# Altium footprint library MBRD10200CT-13.PcbLib: 3 footprints
Each footprint in its own frame and in the unit in brackets; x right, y up, seen from the top. Pads: shape width x height; smd on the part's side, far side on the other; paste and mask are expansions set on the pad; w line width, h text height; cw(c..) or ccw(c..) is an arc to the next point about the centre after c.
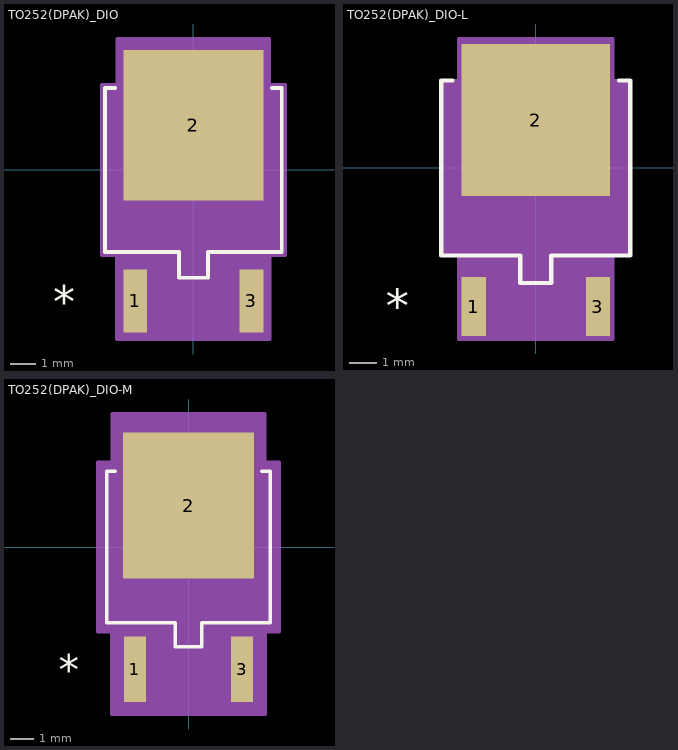
[diagram p0: the footprints below, top view; thin cyan lines are the x and y axes]

## TO252(DPAK)_DIO [mil]
pads (3):
  rect 37x98 smd paste+0 mask+0: 1(-90,-203) 3(90,-203)
  rect 217x233 smd paste+0 mask+0: 2(0,69.5)
Top Overlay:
  lines w6: -121.6,127 -137,127 -137,-127 -22.5,-127 -22.5,-167 22.5,-167 22.5,-127 137,-127 137,127 121.6,127
  text "*" at -217.5,-228 h50
Mechanical 13:
  lines w1: -132,-122 132,-122 132,122 -132,122 -132,-122 ; -107.5,-238 -107.5,-122 -72.5,-122 -72.5,-238 -107.5,-238 ; -17.5,-162 -17.5,-122 17.5,-122 17.5,-162 -17.5,-162 ; 72.5,-238 72.5,-122 107.5,-122 107.5,-238 72.5,-238
  text "*" at -102.5,-137 h50
Mechanical 15:
  region: -142,-132 -142,132 -117.5,132 -117.5,203 117.5,203 117.5,132 142,132 142,-132 118.5,-132 118.5,-262 -118.5,-262 -118.5,-132
  lines w6: -142,-132 -142,132 -117.5,132 -117.5,203 117.5,203 117.5,132 142,132 142,-132 118.5,-132 118.5,-262 -118.5,-262 -118.5,-132 -142,-132
3D body "TO252DPAK_DIO.step": height 94.09, standoff -2.01, extent -132.01,-237.99 132.01,172.01

## TO252(DPAK)_DIO-L [mil]
pads (3):
  rect 35x86 smd paste+0 mask+0: 1(-90,-201) 3(90,-201)
  rect 215x221 smd paste+0 mask+0: 2(0,69.5)
Top Overlay:
  lines w6: -120.6,127 -137,127 -137,-127 -22.5,-127 -22.5,-167 22.5,-167 22.5,-127 137,-127 137,127 120.6,127
  text "*" at -217.5,-226 h50
Mechanical 13:
  lines w1: -132,-122 132,-122 132,122 -132,122 -132,-122 ; -107.5,-238 -107.5,-122 -72.5,-122 -72.5,-238 -107.5,-238 ; -17.5,-162 -17.5,-122 17.5,-122 17.5,-162 -17.5,-162 ; 72.5,-238 72.5,-122 107.5,-122 107.5,-238 72.5,-238
  text "*" at -102.5,-137 h50
Mechanical 15:
  region: -136,-126 -136,126 -111.5,126 -111.5,187 111.5,187 111.5,126 136,126 136,-126 111.5,-126 111.5,-248 -111.5,-248 -111.5,-126
  lines w6: -136,-126 -136,126 -111.5,126 -111.5,187 111.5,187 111.5,126 136,126 136,-126 111.5,-126 111.5,-248 -111.5,-248 -111.5,-126 -136,-126
3D body: height 10, standoff 0, extent 0,0 10,10

## TO252(DPAK)_DIO-M [mil]
pads (3):
  rect 37x110 smd paste+0 mask+0: 1(-90,-205) 3(90,-205)
  rect 219x245 smd paste+0 mask+0: 2(0,69.5)
Top Overlay:
  lines w6: -122.6,127 -137,127 -137,-127 -22.5,-127 -22.5,-167 22.5,-167 22.5,-127 137,-127 137,127 122.6,127
  text "*" at -217.5,-230 h50
Mechanical 13:
  lines w1: -132,-122 132,-122 132,122 -132,122 -132,-122 ; -107.5,-238 -107.5,-122 -72.5,-122 -72.5,-238 -107.5,-238 ; -17.5,-162 -17.5,-122 17.5,-122 17.5,-162 -17.5,-162 ; 72.5,-238 72.5,-122 107.5,-122 107.5,-238 72.5,-238
  text "*" at -102.5,-137 h50
Mechanical 15:
  region: -152,-142 -152,142 -127.5,142 -127.5,223 127.5,223 127.5,142 152,142 152,-142 128.5,-142 128.5,-280 -128.5,-280 -128.5,-142
  lines w6: -152,-142 -152,142 -127.5,142 -127.5,223 127.5,223 127.5,142 152,142 152,-142 128.5,-142 128.5,-280 -128.5,-280 -128.5,-142 -152,-142
3D body: height 10, standoff 0, extent 0,0 10,10